# EAGLE library part TL5209_D_8 (library TL5209)
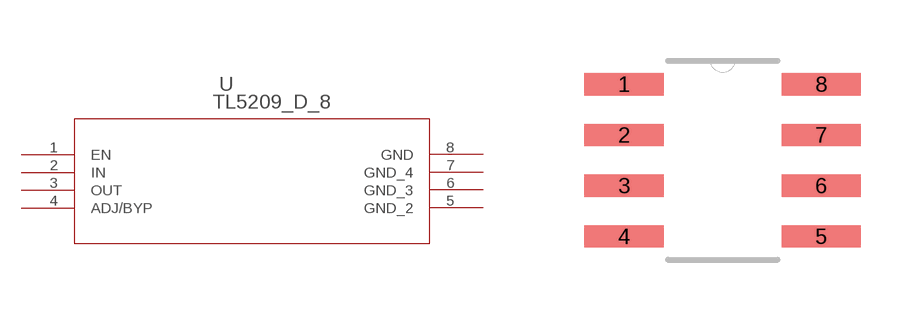
[diagram p0: symbol with the pads of D8; footprint D8]

Designator prefix U

## TL5209_D_8 (DATASHEETURL: http://www.ti.com/lit/gpn/TL5209; DESCRIPTION: Single Output LDO, 500mA, Adj. (1.3 to 6.5V), Low Noise; FAMILY_NAME: SINGLE CHANNEL LDO; GENERIC_PART_NUMBER: TL5209; INDUSTRY_STD_PKG_TYPE: SOIC; MANUFACTURER: Texas Instruments; MANUFACTURER_PART_NUMBER: tl5209_d_8; PACKAGE_DESIGNATOR: D; PIN_COUNT: 8; VENDOR: Texas Instruments)  [D8]
1  EN  pas
2  IN  in
3  OUT  out
4  ADJ/BYP  pas
5  GND_2  pwr
6  GND_3  pwr
7  GND_4  pwr
8  GND  pwr

## Footprint D8 (pad centres in mm)
smd 1.981 x 0.559: 1 -2.464,1.905; 2 -2.464,0.635; 3 -2.464,-0.635; 4 -2.464,-1.905; 5 2.464,-1.905; 6 2.464,-0.635; 7 2.464,0.635; 8 2.464,1.905